# Altium footprint library Trofazni_invertor_PcbLib.PcbLib: 18 footprints (part 2 of 2)
Each footprint in its own frame and in the unit in brackets; x right, y up, seen from the top. Pads: shape width x height; smd on the part's side, far side on the other; paste and mask are expansions set on the pad; w line width, h text height; cw(c..) or ccw(c..) is an arc to the next point about the centre after c.
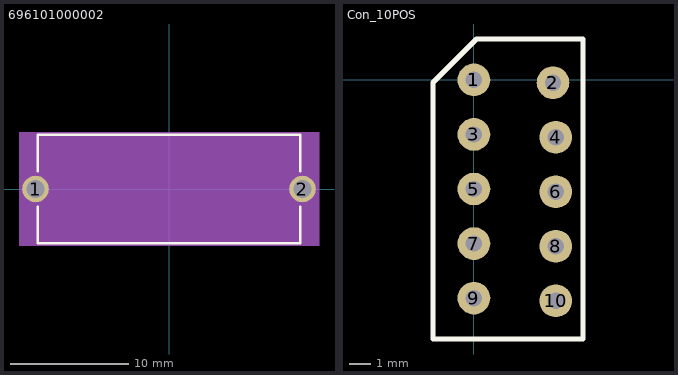
[diagram p1: the footprints below, top view; thin cyan lines are the x and y axes]

## 696101000002 [mm]
pads (2):
  round 2.25 hole 1.5: 1(-11.3,0) 2(11.3,0)
Top Overlay:
  lines w0.2: -11.1,-1.5 -11.1,-4.6 11.1,-4.6 11.1,-1.5 ; -11.1,1.5 -11.1,4.6 11.1,4.6 11.1,1.5
Mechanical 13:
  lines w0.1: -11,-4.5 -11,4.5 11,4.5 11,-4.5 -11,-4.5
Mechanical 15:
  region: 12.7,-4.8 -12.7,-4.8 -12.7,4.8 12.7,4.8

## Con_10POS [mil]
pads (12):
  round 60 hole 30: 1(0,0) 1(0,0) 2(145,-5) 2(145,-5) 3(0,-100) 4(150,-105) 5(0,-200) 6(150,-205) 7(0,-300) 8(150,-305) 9(0,-400) 10(150,-405)
Top Overlay:
  lines w10: -75,-475 -75,-5 5,75 200,75 200,-475 -75,-475